# Altium schematic symbol library LibSTM.SchLib: 13 symbols
Pins are listed as number, name and electrical type; pins without a type are passive.

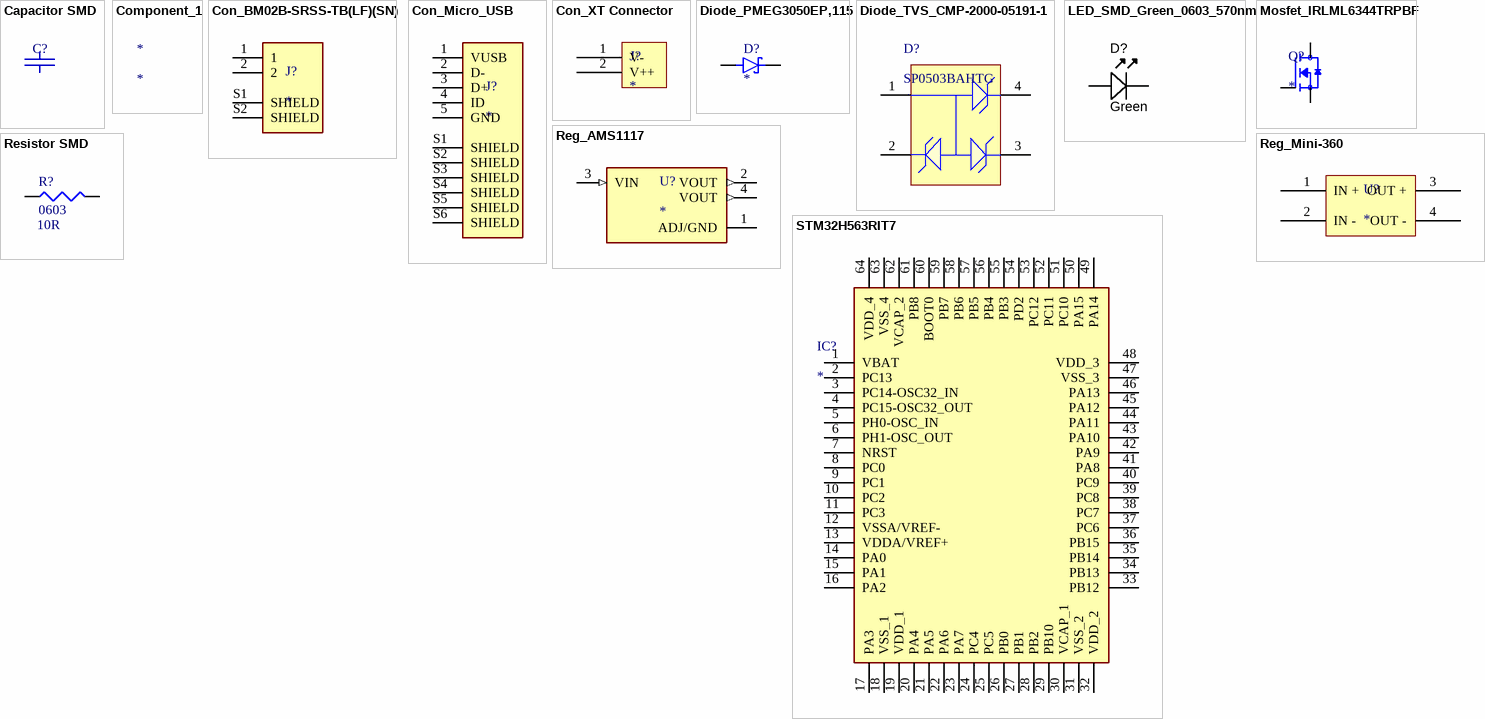
[diagram p0: symbols Capacitor SMD to STM32H563RIT7]

## Capacitor SMD
designator C?  (value not drawn)
Capacitor
footprint SMD Capacitor
footprint CAPC0603
footprint CAPC2220
footprint CAPC0805
footprint CAPC0402
footprint CAPC1206
pins: 1, 2

## Component_1
designator *

## Con_BM02B-SRSS-TB(LF)(SN)
designator J?
Conn Shrouded Header (4 Sides) HDR 2 POS 1mm Solder ST Top Entry SMD T/R; MP: BM02B-SRSS-TB(LF)(SN); MF: JST Sales America Inc.; Package: None; Check_prices: https://www.snapeda.com/parts/BM02B-SRSS-TB(LF)(SN)/JST/view-part/?ref=eda; SnapEDA_Link: https://www.snapeda.com/parts/BM02B-SRSS-TB(LF)(SN)/JST/view-part/?ref=snap; Availability: In Stock; Price: None; Value: *
footprint JST_BM02B-SRSS-TB(LF)(SN)
pins: 1, 2, S1 SHIELD, S2 SHIELD

## Con_Micro_USB
designator J?
USB - micro B USB 2.0 Receptacle Connector 5 Position Surface Mount, Right Angle; Through Hole; MP: 10118193-0001LF; MF: Amphenol ICC; Availability: Unavailable; SnapEDA_Link: https://www.snapeda.com/parts/10118193-0001LF/Amphenol%20FCI/view-part/2758989/?ref=snap; Price: None; Value: *; Package: None
footprint Micro USB
pins: 1 VUSB, 2 D-, 3 D+, 4 ID, 5 GND, S1 SHIELD, S2 SHIELD, S3 SHIELD, S4 SHIELD, S5 SHIELD, S6 SHIELD

## Con_XT Connector
designator J?
footprint XT90
footprint XT60
footprint XT30
pins: 1 V-, 2 V++

## Diode_PMEG3050EP,115
designator D?
Diode Schottky 30 V 5A Surface Mount SOD-128/CFP5; MF: Nexperia USA Inc.; MP: PMEG3050EP,115; SnapEDA_Link: https://www.snapeda.com/parts/PMEG3050EP,115/Nexperia/view-part/?ref=snap; Package: SOD-128 Nexperia USA Inc.; Value: *; Check_prices: https://www.snapeda.com/parts/PMEG3050EP,115/Nexperia/view-part/?ref=eda
footprint DIO_PMEG3050EP,115
pins: A, K

## Diode_TVS_CMP-2000-05191-1
designator D?, comment SP0503BAHTG
TVS Diode Array, 30 pF, 30 KV, -40 to 85 degC, 4-Pin SOT143, RoHS, Tape and Reel; Manufacturer: Littelfuse; Direction Type: Uni-Directional; Product Height (mm): 1.05mm; Leakage Current (Max): 0.1uA; Clamping Voltage (Max): 8V; Reverse Stand-off Voltage: 5.5(Min)V; Configuration: Triple; Working Voltage: 5.5V; Product Length (mm): 3.04mm; Working Voltage (Max): 5.5V(Min); Capacitance Value: 30pF; Rad Hardened: No; Number of Elements: 3; Product Depth (mm): 1.4mm; Operating Temperature Max Deg. C: 85C; Suppressor Type: TVS; Operating Temperature Min Deg. C: -40C; Operating Temp Range: -40Cto85C; Mounting: SurfaceMount; Package / Case: SOT-143; Datasheet Version: Dec-13; Package Type: SOT-143; Packaging: TapeandReel; Pin Count: 3+Tab; Operating Temperature Classification: Industrial; Datasheet URL: https://datasheet.ciiva.com/15143/getdatasheetpartid-116020-15143550.pdf; Manufacturer URL: http://www.littelfuse.com/; Leakage Current: 0.1uA; Mounting Style: SurfaceMount; Clamping Voltage: 8V; Polarity: Uni-Directional
footprint LFUS-SOT143-4_V (SOT143, 4-Leads, Body 3.04x1.4mm, Pitch 1.90mm)
pins: 1, 2, 3, 4

## LED_SMD_Green_0603_570nm
designator D?, comment Green
LED 0603 SMD Green 570nm 50mcd 20mA; Manufacturer 1: Kingbright Company LLC; Manufacturer Part Number 1: APT1608CGCK; Material: AlGaInP; Ratings: 20mcd min; 50 mcd typ; 570 nm; Voltage - Forward (Vf) Typ: 2.1V; Viewing Angle: 120°; Lens Style/Size: Rectangle with Flat Top, 1.1mm x 0.8mm; Voltage - Forward (Vf) @ 10mA: 2.0V; SCDType: source; Wavelength - Peak: 574nm; Lens Type: Clear; Package / Case: 0603 (1608 metric); Color: Green; Current - Test: 20mA; Supplier 1: Digi-Key; Supplier Part Number 1: 754-1116-1-ND; RoHS 1: RoHS Compliant; Wavelength - Dominant: 570nm; ComponentLink1URL: http://www.us.kingbright.com/images/catalog/SPEC/APT1608CGCK.pdf; ComponentLink1Description: http://www.us.kingbright.com/images/catalog/SPEC/APT1608CGCK.pdf
footprint LED-0603-GREEN
pins: A, K

## Mosfet_IRLML6344TRPBF
designator Q?
MP: IRLML6344TRPBF; Package: None; Price: None; Value: *; Availability: Unavailable
footprint TRANS_IRLML6344TRPBF
pins: 1 G, 2 S, 3 D

## Reg_AMS1117
designator U?
UNO PLUS Arduino R3 Shield, Xbee Arduino IDE Wheeled Robotics Kit; MP: AMS1117; MF: Seeed Technology; Availability: Unavailable; SnapEDA_Link: https://www.snapeda.com/parts/AMS1117/Seeed%20Technology%20Co.%2C%20Ltd/view-part/184428/?ref=snap; Price: None; Value: *; Package: SOT-223 Seeed Technology
footprint SOT229P700X180-4N
pins: 1 ADJ/GND (power), 2 VOUT (out), 3 VIN (in), 4 VOUT (out)

## Reg_Mini-360
designator U?
Módulo Regulador de Tensão Step Down Buck DC-DC Mini 360 3A
footprint Mini-360 (Footprint not found)
footprint Mini-360 baixo
pins: 1 IN + (power), 2 IN - (power), 3 OUT + (power), 4 OUT - (power)

## Resistor SMD
designator R?  value 10R  Size: 0603  (hidden comment: *)
Resistor SMD com os tamanhos 0603, 0805, 1206 e 1210
footprint Resistor SMD 0603 (Footprint not found)
footprint Resistor SMD 0805 (Footprint not found)
footprint Resistor SMD 1206 (Footprint not found)
footprint Resistor SMD 1210 (Footprint not found)
pins: 1, 2

## STM32H563RIT7
designator IC?
Integrated Circuit; Manufacturer_Name: STMicroelectronics; Manufacturer_Part_Number: STM32H563RIT7; Datasheet Link: https://www.st.com/resource/en/datasheet/stm32h562ag.pdf; Height: 1.6mm
footprint STM32H563RIT7
pins: 1 VBAT, 2 PC13, 3 PC14-OSC32_IN, 4 PC15-OSC32_OUT, 5 PH0-OSC_IN, 6 PH1-OSC_OUT, 7 NRST, 8 PC0, 9 PC1, 10 PC2, 11 PC3, 12 VSSA/VREF-, 13 VDDA/VREF+, 14 PA0, 15 PA1, 16 PA2, 17 PA3, 18 VSS_1, 19 VDD_1, 20 PA4, 21 PA5, 22 PA6, 23 PA7, 24 PC4, 25 PC5, 26 PB0, 27 PB1, 28 PB2, 29 PB10, 30 VCAP_1, 31 VSS_2, 32 VDD_2, 33 PB12, 34 PB13, 35 PB14, 36 PB15, 37 PC6, 38 PC7, 39 PC8, 40 PC9, 41 PA8, 42 PA9, 43 PA10, 44 PA11, 45 PA12, 46 PA13, 47 VSS_3, 48 VDD_3, 49 PA14, 50 PA15, 51 PC10, 52 PC11, 53 PC12, 54 PD2, 55 PB3, 56 PB4, 57 PB5, 58 PB6, 59 PB7, 60 BOOT0, 61 PB8, 62 VCAP_2, 63 VSS_4, 64 VDD_4